# EAGLE library part R-ARRAY(8) (library matlock)
Bourns 4100R series 1/4W resistors (4116R)
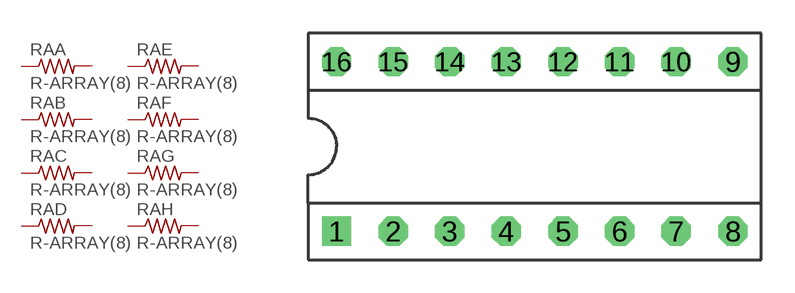
[diagram p0: symbol with the pads of DIP16; footprint DIP16]

Designator prefix RA; gates A=RESISTOR B=RESISTOR C=RESISTOR D=RESISTOR E=RESISTOR F=RESISTOR G=RESISTOR H=RESISTOR

## R-ARRAY(8)  [DIP16]
1  A:1  pas
2  B:1  pas
3  C:1  pas
4  D:1  pas
5  E:1  pas
6  F:1  pas
7  G:1  pas
8  H:1  pas
9  H:2  pas
10  G:2  pas
11  F:2  pas
12  E:2  pas
13  D:2  pas
14  C:2  pas
15  B:2  pas
16  A:2  pas

## Footprint DIP16 (pad centres in mm)
drill 0.813 square: 1 -8.89,-3.81
drill 0.813 octagon: 2 -6.35,-3.81; 3 -3.81,-3.81; 4 -1.27,-3.81; 5 1.27,-3.81; 6 3.81,-3.81; 7 6.35,-3.81; 8 8.89,-3.81; 9 8.89,3.81; 10 6.35,3.81; 11 3.81,3.81; 12 1.27,3.81; 13 -1.27,3.81; 14 -3.81,3.81; 15 -6.35,3.81; 16 -8.89,3.81